# EAGLE library part M300-MV31045M1 (library M300-MV31045M1)
Headers & Wire Housings 10 WAY MALE PC TAIL DIL WJS Source: Datasheet <https://componentsearchengine.com/Datasheets/1/M300-MV31045M1.pdf>
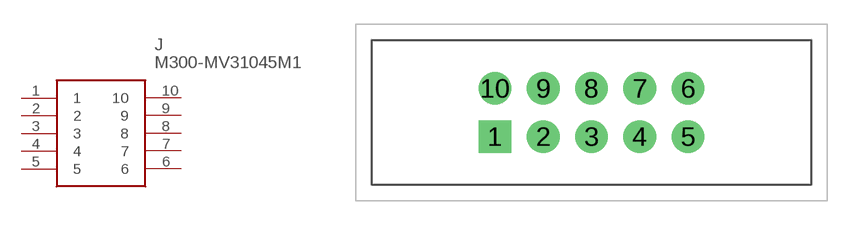
[diagram p0: symbol with the pads of M300MV31045M1; footprint M300MV31045M1]

Designator prefix J

## M300-MV31045M1 (Description: Headers & Wire Housings 10 WAY MALE PC TAIL DIL WJS; Height: 7.05mm; Manufacturer_Name: HARWIN; Manufacturer_Part_Number: M300-MV31045M1)  [M300MV31045M1]
1  1
2  2
3  3
4  4
5  5
6  6
7  7
8  8
9  9
10  10

## Footprint M300MV31045M1 (pad centres in mm)
M300-MV31045M1-1
drill 1.35 pad 2.025 square: 1 0,0
drill 1.35 pad 2.025: 2 3,0; 3 6,0; 4 9,0; 5 12,0; 6 12,3; 7 9,3; 8 6,3; 9 3,3; 10 0,3